# Altium schematic symbol library Nixie_Tube_IN-8.SchLib: 1 symbol
Pins are listed as number, name and electrical type; pins without a type are passive.

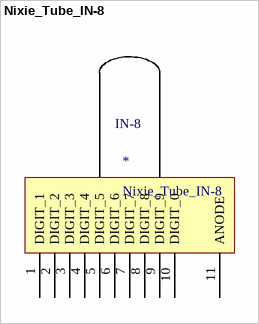
[diagram p0: symbol Nixie_Tube_IN-8]

## Nixie_Tube_IN-8
designator *
footprint Nixie_Tube_IN-8
pins: 1 DIGIT_1, 2 DIGIT_2, 3 DIGIT_3, 4 DIGIT_4, 5 DIGIT_5, 6 DIGIT_6, 7 DIGIT_7, 8 DIGIT_8, 9 DIGIT_9, 10 DIGIT_0, 11 ANODE
text: IN-8